# Altium footprint library SnapEDApcb.PcbLib: 1 footprints
Each footprint in its own frame and in the unit in brackets; x right, y up, seen from the top. Pads: shape width x height; smd on the part's side, far side on the other; paste and mask are expansions set on the pad; w line width, h text height; cw(c..) or ccw(c..) is an arc to the next point about the centre after c.
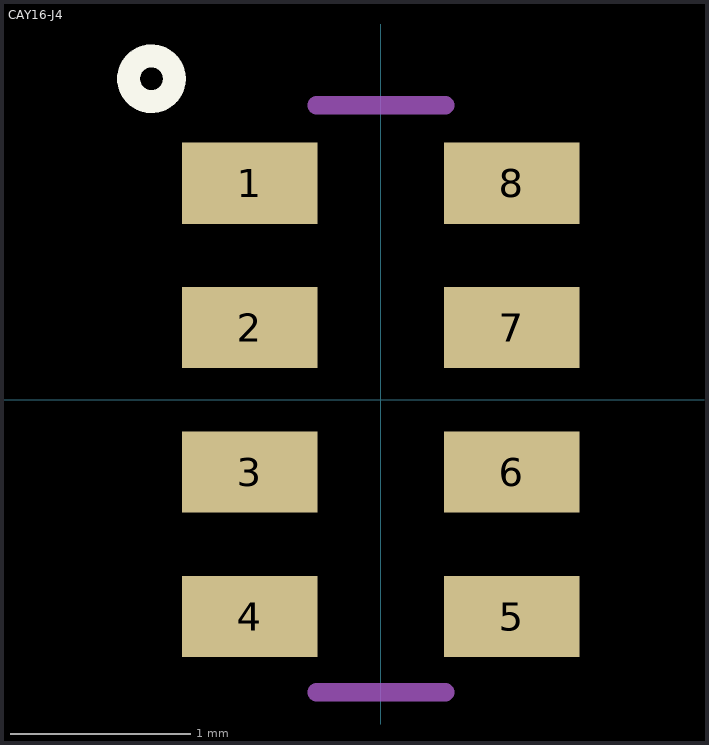
[diagram p0: the footprint, top view; thin cyan lines are the x and y axes]

## CAY16-J4 [mm]
pads (8):
  rect 0.75x0.45 smd: 1(-0.725,1.2) 2(-0.725,0.4) 3(-0.725,-0.4) 4(-0.725,-1.2) 5(0.725,-1.2) 6(0.725,-0.4) 7(0.725,0.4) 8(0.725,1.2)
Top Overlay:
  circle w0.127: c-1.27,1.778 r0.127
Mechanical 13:
  lines w0.102: -0.356,-1.619 0.356,-1.619 ; -0.356,1.632 0.356,1.632